# Altium integrated library Jacdac.IntLib: 3 symbols
Pins are listed as number, name and electrical type; pins without a type are passive.

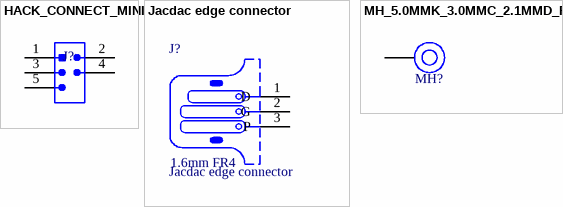
[diagram p0: symbols HACK_CONNECT_MINI to MH_5.0MMK_3.0MMC_2.1MMD_PTH]

## HACK_CONNECT_MINI
designator J?, comment Hack Connect Mini 1.27 mm pitch 2-row  (value not drawn)
footprint HACK_CONNECT_MINI_5_X_1_27 (5 pins, 1.27mm x 1.676mm pitch)
pins: 1 VCC, 2 SWDIO, 3 GND, 4 SWCLK, 5 RESET

## Jacdac edge connector
designator J?  PCB Type: 1.6mm FR4
3 pin Jacdac edge connector 1.27mm pitch; Manufacturer Part Number: JACDAC_EDGE_CONNECTOR; Checked By: ?; Created By: D. Gakure; ComponentLink1Description: Yuliang JACDAC cable connector drawing online; ComponentLink1URL: https://github.com/microsoft/jacdac-mdk/blob/main/connector/JACDAC-Connector-by-Yuliang-2020-11-28.pdf; ComponentLink2Description: JACDAC PCB edge connector spec onlin; ComponentLink2URL: https://github.com/microsoft/jacdac-mdk/blob/main/connector/JACDAC_PCB_Edge_Connector_Drawing_JD-PEC-01_rev_01.pdf
footprint JACDAC_EDGE_CONNECTOR_NO_TRACES (JacDac 3 pin connector with no traces)
footprint JACDAC_EDGE_CONNECTOR_0.2mm_T&G (JacDac 3 pin connector with traces for 0.2mm T&G)
pins: 1 D, 2 G, 3 P

## MH_5.0MMK_3.0MMC_2.1MMD_PTH
designator MH?  (no BOM)
Mounting Hole 5.0mm keepout, 3.0mm annualar ring and 2.1mm Drill PTH
footprint MH_5.0MMK_3.0MMC_2.1MMD_PTH_HOLE_1 (Mounting Hole 5.0mm clearance, 3.1 annualar ring and 2.1mm PTH)
footprint MH_5.0MMK_3.0MMC_2.1MMD_PTH (Mounting Hole 5.0mm clearance, 3.1 annualar ring and 2.1mm PTH)
pins: 1